# EAGLE library part PGA460TPWQ1 (library PGA460TPWQ1)
Analog Front End - AFE Automotive Ultrasonic Signal Processor & Transducer Driver 16-TSSOP -40 to 105 Source: Datasheet <http://www.ti.com/lit/gpn/pga460>
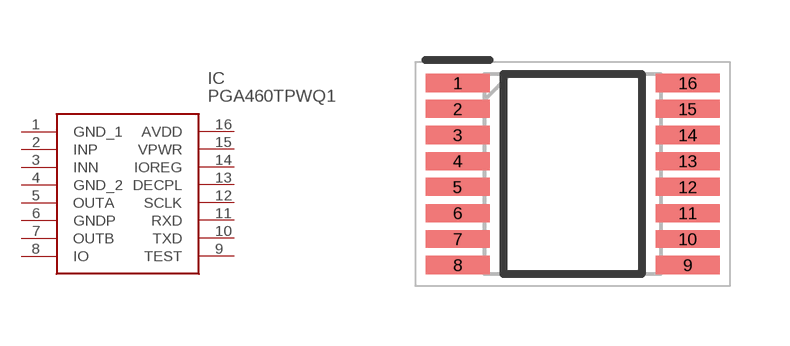
[diagram p0: symbol with the pads of SOP65P640X120-16N; footprint SOP65P640X120-16N]

Designator prefix IC

## PGA460TPWQ1 (Description: Analog Front End - AFE Automotive Ultrasonic Signal Processor & Transducer Driver 16-TSSOP -40 to 105; Height: 1.2mm; Manufacturer_Name: Texas Instruments; Manufacturer_Part_Number: PGA460TPWQ1; Mouser_Part_Number: 595-PGA460TPWQ1; Mouser_Price-Stock: https://www.mouser.com/Search/Refine.aspx?Keyword=595-PGA460TPWQ1)  [SOP65P640X120-16N]
1  GND_1  pwr
2  INP  in
3  INN  in
4  GND_2  pwr
5  OUTA  out
6  GNDP  pwr
7  OUTB  out
8  IO
9  TEST
10  TXD  out
11  RXD  in
12  SCLK  in
13  DECPL  out
14  IOREG  pwr
15  VPWR  pwr
16  AVDD  pwr

## Footprint SOP65P640X120-16N (pad centres in mm)
TSSOP 16
smd 1.6 x 0.45: 1 -2.875,2.275; 2 -2.875,1.625; 3 -2.875,0.975; 4 -2.875,0.325; 5 -2.875,-0.325; 6 -2.875,-0.975; 7 -2.875,-1.625; 8 -2.875,-2.275; 9 2.875,-2.275; 10 2.875,-1.625; 11 2.875,-0.975; 12 2.875,-0.325; 13 2.875,0.325; 14 2.875,0.975; 15 2.875,1.625; 16 2.875,2.275